# Altium footprint library Panasonic_F.PcbLib: 1 footprints
Each footprint in its own frame and in the unit in brackets; x right, y up, seen from the top. Pads: shape width x height; smd on the part's side, far side on the other; paste and mask are expansions set on the pad; w line width, h text height; cw(c..) or ccw(c..) is an arc to the next point about the centre after c.
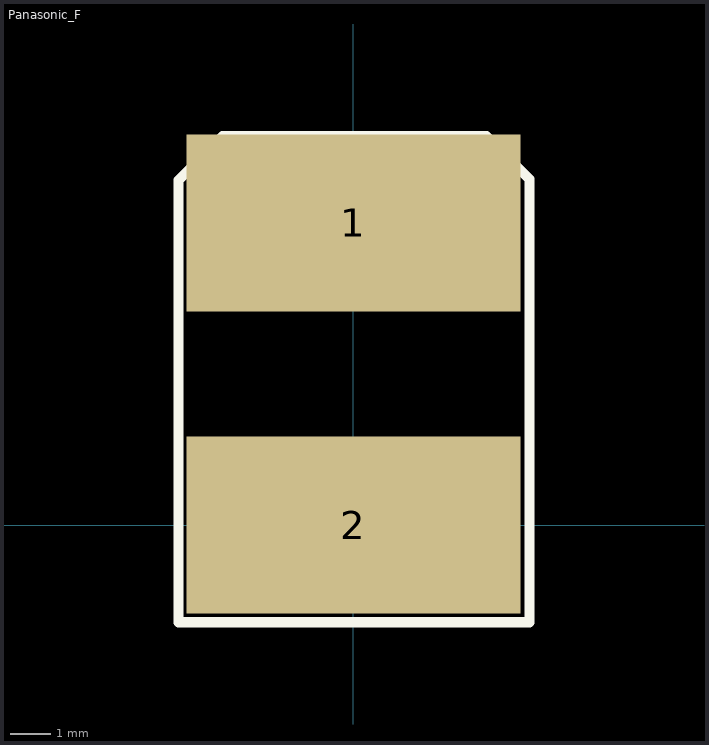
[diagram p0: the footprint, top view; thin cyan lines are the x and y axes]

## Panasonic_F [mm] "8mm diameter capacitor"
pads (2):
  rect 8.3x4.4 smd: 1(0,7.5) 2(0,0)
Top Overlay:
  lines w0.254: -4.343,-2.413 -4.343,8.56 -3.251,9.652 3.302,9.652 4.369,8.585 4.369,-2.413 -4.318,-2.413